# Altium footprint library Semiconductor.PcbLib: 27 footprints (part 1 of 2)
Each footprint in its own frame and in the unit in brackets; x right, y up, seen from the top. Pads: shape width x height; smd on the part's side, far side on the other; paste and mask are expansions set on the pad; w line width, h text height; cw(c..) or ccw(c..) is an arc to the next point about the centre after c.
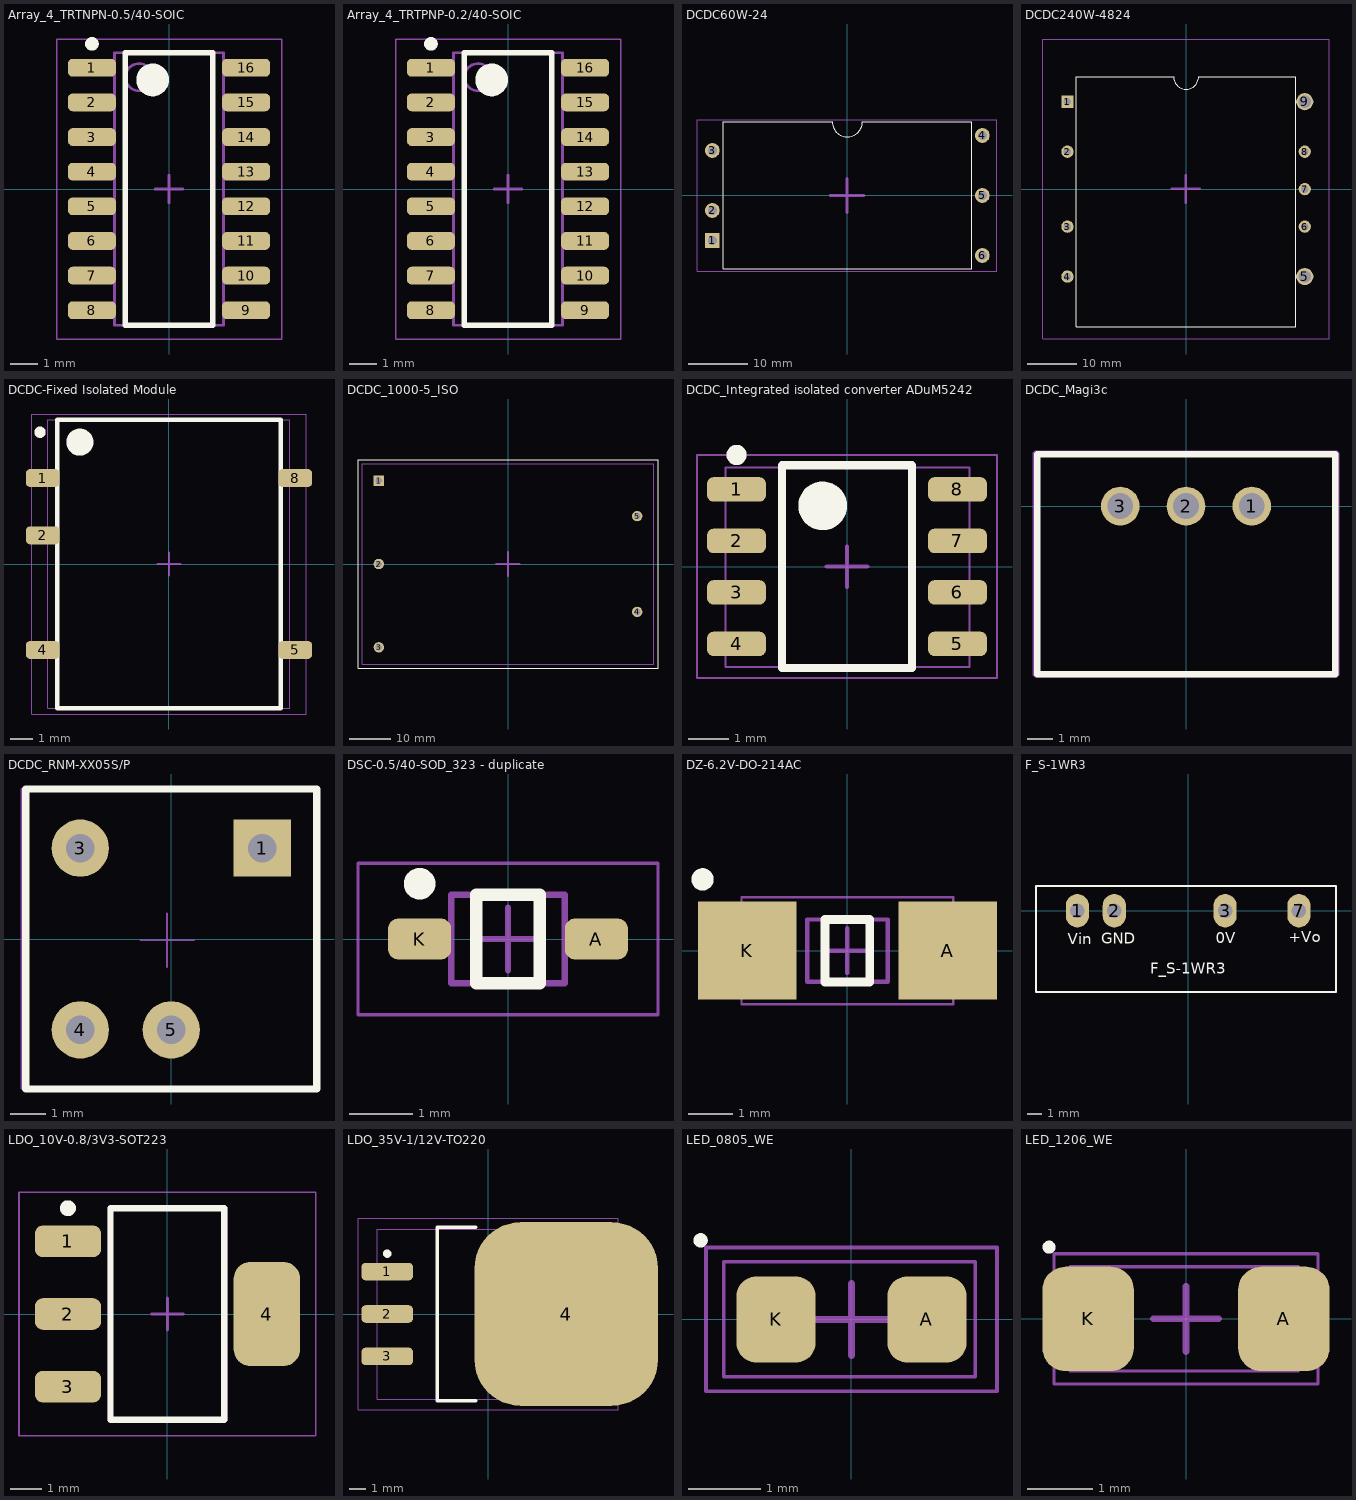
[diagram p0: the footprints below, top view; thin cyan lines are the x and y axes]

## Array_4_TRTNPN-0.5/40-SOIC [mm] "SOIC, 16-Leads, Body 9,90x3,90mm, Pitch 1,27mm, IPC Low Density"
height 1.75
pads (16):
  rrect50% 1.75x0.65 smd: 1(-2.825,4.445) 2(-2.825,3.175) 3(-2.825,1.905) 4(-2.825,0.635) 5(-2.825,-0.635) 6(-2.825,-1.905) 7(-2.825,-3.175) 8(-2.825,-4.445) 9(2.825,-4.445) 10(2.825,-3.175) 11(2.825,-1.905) 12(2.825,-0.635) 13(2.825,0.635) 14(2.825,1.905) 15(2.825,3.175) 16(2.825,4.445)
Top Overlay:
  circle w0.6: c-0.6,4 r0.3
  circle w0.25: c-2.825,5.32 r0.125
  lines w0.2: -1.6,-5 1.6,-5 1.6,5 -1.6,5 -1.6,-5
Top Component Outline:
  circle w0.1: c-1.1,4.1 r0.5
  lines w0.05: -4.125,-5.5 4.125,-5.5 4.125,5.5 -4.125,5.5 -4.125,-5.5
  lines w0.1: -0.5,0 0.5,0 ; 0,-0.5 0,0.5 ; -2,-5 2,-5 2,5 -2,5 -2,-5
  text "'.Designator'" at -3.975,-3.492 h0.7
3D body "MMPQ2222A.stp": height 1.75, standoff 0, extent -3,-4.95 3,4.95

## Array_4_TRTPNP-0.2/40-SOIC [mm] "SOIC, 16-Leads, Body 9,90x3,90mm, Pitch 1,27mm, IPC Low Density"
height 1.75
pads (16):
  rrect50% 1.75x0.65 smd: 1(-2.825,4.445) 2(-2.825,3.175) 3(-2.825,1.905) 4(-2.825,0.635) 5(-2.825,-0.635) 6(-2.825,-1.905) 7(-2.825,-3.175) 8(-2.825,-4.445) 9(2.825,-4.445) 10(2.825,-3.175) 11(2.825,-1.905) 12(2.825,-0.635) 13(2.825,0.635) 14(2.825,1.905) 15(2.825,3.175) 16(2.825,4.445)
Top Overlay:
  circle w0.6: c-0.6,4 r0.3
  circle w0.25: c-2.825,5.32 r0.125
  lines w0.2: -1.6,-5 1.6,-5 1.6,5 -1.6,5 -1.6,-5
Top Component Outline:
  circle w0.1: c-1.1,4.1 r0.5
  lines w0.05: -4.125,-5.5 4.125,-5.5 4.125,5.5 -4.125,5.5 -4.125,-5.5
  lines w0.1: -0.5,0 0.5,0 ; 0,-0.5 0,0.5 ; -2,-5 2,-5 2,5 -2,5 -2,-5
  text "'.Designator'" at -3.675,-2.767 h0.7
3D body "MMPQ3906.stp": height 1.76, standoff 0.01, extent -3.025,-4.925 2.975,4.975

## DCDC60W-24 [mm]
pads (6):
  rect 2.5x2.5 hole 1.5: 1(-22.86,-7.62)
  round 2.5 hole 1.5: 2(-22.86,-2.54) 3(-22.86,7.62) 4(22.86,10.16) 5(22.86,0) 6(22.86,-10.16)
Top Overlay:
  lines w0.2: -21.025,-12.42 21.025,-12.42 21.025,12.46 2.54,12.46 cw(c0,12.46) -2.54,12.46 -21.025,12.46 -21.025,-12.42
Top Component Outline:
  lines w0.05: -25.46,-12.82 25.34,-12.82 25.34,12.78 -25.46,12.78 -25.46,-12.82
  lines w0.5: -2.892,0.01 2.808,0.01 ; -0.034,-2.869 -0.034,2.831
  text "'.Designator'" at -3.76,-6.487 h0.7
3D body "RPA60-2424SFW_N-HC.stp": height 17.01, standoff -6.09, extent -25.42,-12.72 25.38,12.68

## DCDC240W-4824 [mm]
pads (9):
  rect 2.5x2.5 hole 1.5: 1(-24.13,17.78)
  round 2.5 hole 1.5: 2(-24.13,7.62) 3(-24.13,-7.62) 4(-24.13,-17.78) 6(24.13,-7.62) 7(24.13,0) 8(24.13,7.62)
  round 3.5 hole 2.5: 5(24.13,-17.78) 9(24.13,17.78)
Top Overlay:
  lines w0.2: -22.295,-27.94 -22.295,22.86 -2.54,22.86 ccw(c0,22.86) 2.54,22.86 22.295,22.86 22.295,-27.94 -22.295,-27.94
Top Component Outline:
  lines w0.05: -29.155,-30.47 29.12,-30.47 29.12,30.53 -29.155,30.53 -29.155,-30.47
  lines w0.5: -2.888,0.059 2.812,0.059 ; -0.03,-2.82 -0.03,2.88
  text "'.Designator'" at -4.13,-7.087 h0.7
3D body "RP240H-4824SRW_P-HC.stp": height 24.24, standoff -5.07, extent -28.95,-30.5 28.95,30.5

## DCDC-Fixed Isolated Module [mm] "SOP, 8-Leads, Body 12,55x9,89mm, Pitch 2,54mm, IPC Medium Density"
height 7.2
pads (5):
  rrect50% 1.5x0.8 smd: 1(-5.6,3.81) 2(-5.6,1.27) 4(-5.6,-3.81) 5(5.6,-3.81) 8(5.6,3.81)
Top Overlay:
  circle w0.25: c-5.715,5.842 r0.125
  circle w0.6: c-3.95,5.4 r0.3
  lines w0.2: -4.95,-6.4 -4.95,6.4 4.95,6.4 4.95,-6.4 -4.95,-6.4
Top Component Outline:
  lines w0.05: -6.075,-6.65 -6.075,6.65 6.075,6.65 6.075,-6.65 -6.075,-6.65 ; -5.375,-6.4 -5.375,6.4 5.35,6.4 5.35,-6.4 -5.375,-6.4
  lines w0.1: -0.5,0 0.5,0 ; 0,-0.5 0,0.5
  text "'.Designator'" at -4.025,-3.342 h0.7
3D body: height 7.2, standoff 0.1, extent -5.35,-6.4 5.35,6.4

## DCDC_1000-5_ISO [mm]
pads (5):
  rect 2.5x2.5 hole 1.5: 1(-31,20)
  round 2.5 hole 1.5: 2(-31,0) 3(-31,-20) 4(31,-11.5) 5(31,11.5)
Top Overlay:
  lines w0.2: -36,-25 36,-25 36,25 -36,25 -36,-25
Top Component Outline:
  lines w0.05: -35,-24 35,-24 35,24 -35,24 -35,-24
  lines w0.5: -2.892,0.01 2.808,0.01 ; -0.034,-2.869 -0.034,2.831
  text "'.Designator'" at -3.76,-6.487 h0.7
3D body "CUI_AE5-EW-S5.step": height 23.1, standoff -6.4, extent -35.075,-23.95 34.925,24.05

## DCDC_Integrated isolated converter ADuM5242 [mm] "SOIC, 8-Leads, Body 4,90x3,90mm, Pitch 1,27mm, IPC Medium Density"
height 1.75
pads (8):
  rrect50% 1.45x0.6 smd: 1(-2.725,1.905) 2(-2.725,0.635) 3(-2.725,-0.635) 4(-2.725,-1.905) 5(2.725,-1.905) 6(2.725,-0.635) 7(2.725,0.635) 8(2.725,1.905)
Top Overlay:
  circle w0.25: c-2.725,2.755 r0.125
  circle w0.6: c-0.6,1.5 r0.3
  lines w0.2: -1.6,-2.5 -1.6,2.5 1.6,2.5 1.6,-2.5 -1.6,-2.5
Top Component Outline:
  lines w0.05: -3.7,-2.75 -3.7,2.75 3.7,2.75 3.7,-2.75 -3.7,-2.75 ; -3,-2.475 -3,2.45 3.025,2.45 3.025,-2.475 -3,-2.475
  lines w0.1: -0.5,0 0.5,0 ; 0,-0.5 0,0.5
  text "'.Designator'" at -3.525,-1.692 h0.7
3D body "ADUM5242ARZ-RL7.stp": height 1.75, standoff 0, extent -3,-2.45 3,2.45

## DCDC_Magi3c [mm]
pads (3):
  round 1.5 hole 1: 1(2.54,0) 2(0,0) 3(-2.54,0)
Top Overlay:
  lines w0.254: -5.75,-6.5 5.775,-6.5 5.775,2 -5.75,2 -5.75,-6.5
Top Component Outline:
  lines w0.254: -5.8,-6.5 5.8,-6.5 5.8,2.025 -5.8,2.025 -5.8,-6.5
  text "'.Designator'" at -4.05,-3.442 h0.7
3D body "STP_173010542 (rev1).stp": height 10.2, standoff -4.3, extent -5.8,-6.5 5.8,2

## DCDC_RNM-XX05S/P [mm]
pads (4):
  rect 1.6x1.6 hole 0.8: 1(2.54,2.54)
  round 1.6 hole 0.8: 3(-2.54,2.54) 4(-2.54,-2.54) 5(0,-2.54)
Top Overlay:
  lines w0.2: -1.905,4.191 2.667,4.191 4.064,4.191 4.064,-4.191 -4.064,-4.191 -4.064,4.191 -0.635,4.191
Top Component Outline:
  lines w0.05: -0.865,-0.035 0.635,-0.035 ; -0.115,-0.785 -0.115,0.715 ; -4.19,-4.185 -4.19,4.19 4.06,4.19 4.06,-4.185 -4.19,-4.185
  text "'.Designator'" at -3.875,-1.142 h0.7
3D body "RNM-0505S_P.stp": height 6.8, standoff -3.25, extent -4.18,-4.125 4.12,4.175

## DSC-0.5/40-SOD_323 - duplicate [mm] "TSOP, 2-Leads, Body 1,25x1,70mm, Pitch 1,27mm, IPC Low Density"
height 1
pads (2):
  rrect50% 1x0.65 smd: A(1.4,0) K(-1.4,0)
Top Overlay:
  circle w0.25: c-1.4,0.875 r0.125
  lines w0.2: -0.5,-0.7 -0.5,0.7 0.5,0.7 0.5,-0.7 -0.5,-0.7
Top Component Outline:
  lines w0.05: -2.375,-1.2 -2.375,1.2 2.375,1.2 2.375,-1.2 -2.375,-1.2
  lines w0.1: -0.5,0 0.5,0 ; 0,-0.5 0,0.5 ; -0.9,-0.7 -0.9,0.7 0.9,0.7 0.9,-0.7 -0.9,-0.7
  text "'.Designator'" at -2.275,-0.867 h0.7
3D body "CMDSH05-45_TR_PBFREE.stp": height 1.11, standoff 0.01, extent -1.25,-0.625 1.25,0.625

## DZ-6.2V-DO-214AC [mm] "TSOP, 2-Leads, Body 1,25x1,70mm, Pitch 1,27mm, IPC Low Density"
height 1
pads (2):
  rect 2.21x2.2 smd: A(2.25,0) K(-2.25,0)
Top Overlay:
  circle w0.25: c-3.25,1.6 r0.125
  lines w0.2: -0.5,-0.7 -0.5,0.7 0.5,0.7 0.5,-0.7 -0.5,-0.7
Top Component Outline:
  lines w0.05: -2.375,-1.2 -2.375,1.2 2.375,1.2 2.375,-1.2 -2.375,-1.2
  lines w0.1: -0.5,0 0.5,0 ; 0,-0.5 0,0.5 ; -0.9,-0.7 -0.9,0.7 0.9,0.7 0.9,-0.7 -0.9,-0.7
  text "'.Designator'" at -2.275,-0.867 h0.7
3D body "SMA (DO-214AC).STEP": height 2.3, standoff 0, extent -2.725,-1.5 2.475,1.4

## F_S-1WR3 [mm]
pads (4):
  oval 1.6x2.3 hole 1: 1(-7.62,0) 2(-5.08,0) 3(2.54,0) 7(7.62,0)
Top Overlay:
  lines w0.127: -10.47,-5.6 -10.47,1.7 10.17,1.7 10.17,-5.6 -10.47,-5.6
  text "F_S-1WR3" at -2.602,-4.346 h0.76
  text "Vin" at -8.284,-2.308 h0.76
  text "GND" at -5.969,-2.272 h0.76
  text "0V" at 1.905,-2.235 h0.76
  text "+Vo" at 6.936,-2.164 h0.76
3D body "F_S-1WR3.stp": height 10.16, standoff -4.1, extent -9.945,-5.118 9.704,0.882

## LDO_10V-0.8/3V3-SOT223 [mm] "SOT223, 4-Leads, Body 6,50x7,00mm (avg), Pitch 2,30mm, IPC Low Density"
height 1.8
pads (4):
  rrect50% 2.1x1 smd: 1(-3.15,2.3) 2(-3.15,0) 3(-3.15,-2.3)
  rrect50% 2.1x3.3 smd: 4(3.15,0)
Top Overlay:
  circle w0.25: c-3.15,3.35 r0.125
  lines w0.2: -1.8,-3.35 1.8,-3.35 1.8,3.35 -1.8,3.35 -1.8,-3.35
Top Component Outline:
  lines w0.05: -4.7,-3.85 4.7,-3.85 4.7,3.85 -4.7,3.85 -4.7,-3.85
  lines w0.1: -0.5,0 0.5,0 ; 0,-0.5 0,0.5 ; -1.85,-3.35 1.85,-3.35 1.85,3.35 -1.85,3.35 -1.85,-3.35
  text "'.Designator'" at -3.75,-2.692 h0.7
3D body "LM1117IMPX-3.3_NOPB.stp": height 1.81, standoff 0.01, extent -3.5,-3.25 3.5,3.25

## LDO_35V-1/12V-TO220 [mm] "D2-PAK, 4-Pads, Body 7,55x8,57mm (max), IPC Medium Density"
height 4.64
pads (4):
  rrect50% 3.1x1.05 smd: 1(-6.05,2.54) 2(-6.05,0) 3(-6.05,-2.54)
  rrect50% 11x11 smd: 4(4.675,0)
Top Overlay:
  circle w0.25: c-6.05,3.615 r0.125
  lines w0.2: -0.75,-5.2 -3.05,-5.2 -3.05,5.2 -0.75,5.2
Top Component Outline:
  lines w0.05: -7.8,-5.75 -7.8,5.75 7.8,5.75 7.8,-5.75 -7.8,-5.75 ; -6.65,-5.1 -6.65,5.075 8.6,5.075 8.6,-5.1 -6.65,-5.1
  lines w0.1: -0.5,0 0.5,0 ; 0,-0.5 0,0.5
  text "'.Designator'" at -4.275,-2.942 h0.7
3D body "LM340S-12_NOPB.stp": height 4.54, standoff 0, extent -6.655,-5.08 8.584,5.08

## LED_0805_WE [mm] "SODFL, 2-Leads, Body 1,60x3,20mm, IPC Medium Density"
height 0.78
pads (2):
  rrect50% 1.1x1.2 smd: A(1.05,0) K(-1.05,0)
Top Overlay:
  circle w0.1: c-2.1,1.1 r0.05
Top Component Outline:
  lines w0.05: -2.025,-1 2.025,-1 2.025,1 -2.025,1 -2.025,-1 ; -1.775,-0.8 -1.775,0.8 1.725,0.8 1.725,-0.8 -1.775,-0.8
  lines w0.1: -0.5,0 0.5,0 ; 0,-0.5 0,0.5
  text "'.Designator'" at -1.925,-0.642 h0.7
3D body "150080RS75000.stp": height 0.7, standoff 0, extent -1.001,-0.625 0.999,0.625

## LED_1206_WE [mm] "SODFL, 2-Leads, Body 1,60x3,20mm, IPC Medium Density"
height 0.78
pads (2):
  rrect50% 1.4x1.6 smd: A(1.5,0) K(-1.5,0)
Top Overlay:
  circle w0.1: c-2.1,1.1 r0.05
Top Component Outline:
  lines w0.05: -2.025,-1 -2.025,1 2.025,1 2.025,-1 -2.025,-1 ; -1.775,-0.8 1.725,-0.8 1.725,0.8 -1.775,0.8 -1.775,-0.8
  lines w0.1: -0.5,0 0.5,0 ; 0,-0.5 0,0.5
  text "'.Designator'" at -1.925,-0.642 h0.7
3D body "150120GS75000.stp": height 0.68, standoff 0, extent -1.601,-0.8 1.599,0.8